# Altium schematic symbol library HDC2010YPAR.SchLib: 1 symbol
Pins are listed as number, name and electrical type; pins without a type are passive.

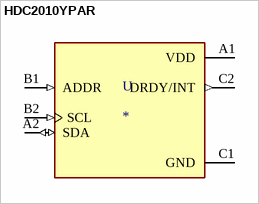
[diagram p0: symbol HDC2010YPAR]

## HDC2010YPAR
designator U
Humidity Temperature Sensor 0 ~ 100% RH IÂ²C Â±2% 8s Surface Mount; MP: HDC2010YPAR; MF: Texas Instruments; SnapEDA_Link: https://www.snapeda.com/parts/HDC2010YPAR/Texas%20Instruments/view-part/1603012/?ref=snap; Digi-Key_Purchase_URL: https://www.digikey.in/product-detail/en/texas-instruments/HDC2010YPAR/296-47774-1-ND/8133123?utm_source=snapeda&utm_medium=aggregator&utm_campaign=symbol; Package: DSBGA-6 Texas Instruments; Value: *; Digi-Key_Part_Number: 296-47774-1-ND
footprint BGA6C100X50P2X3_HDC2010YPAR
pins: A1 VDD (power), A2 SDA (io), B1 ADDR (in), B2 SCL (in), C1 GND (power), C2 DRDY/INT (out)